# EAGLE library part L7985A (library stmicroelectronics)
BUCK, 4.5-38V, 2A, 1MHZ, 0.6-38V, 8HSOP
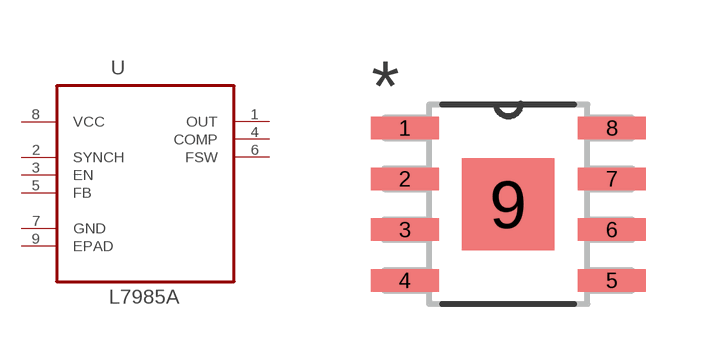
[diagram p0: symbol with the pads of SOIC127P600X170-9N; footprint SOIC127P600X170-9N]

Designator prefix U

## L7985A (MPN: L7985A; OC_FARNELL: 2311340; OC_NEWARK: 86W0520; PACKAGE: HSOP8; SUPPLIER: STMicroelectronics)  [SOIC127P600X170-9N]
1  OUT  out
2  SYNCH  pas
3  EN  in
4  COMP  out
5  FB  in
6  FSW  pas
7  GND  pwr
8  VCC  pwr
9  EPAD  pas

## Footprint SOIC127P600X170-9N (pad centres in mm)
smd 1.702 x 0.559: 1 -2.591,1.905; 2 -2.591,0.635; 3 -2.591,-0.635; 4 -2.591,-1.905; 5 2.591,-1.905; 6 2.591,-0.635; 7 2.591,0.635; 8 2.591,1.905
smd 2.311 x 2.311: 9 0,0